# EAGLE library part ADAFRUIT_AUDIO_FX_MINI_SOUNDBOARD (library Adafruit Audio FX Sound Board)
Component for Adafruit Audio FX Mini Soundboard Product Page: https://www.adafruit.com/product/2341 Datasheet: https://cdn-shop.adafruit.com/datasheets/vs1000.pdf
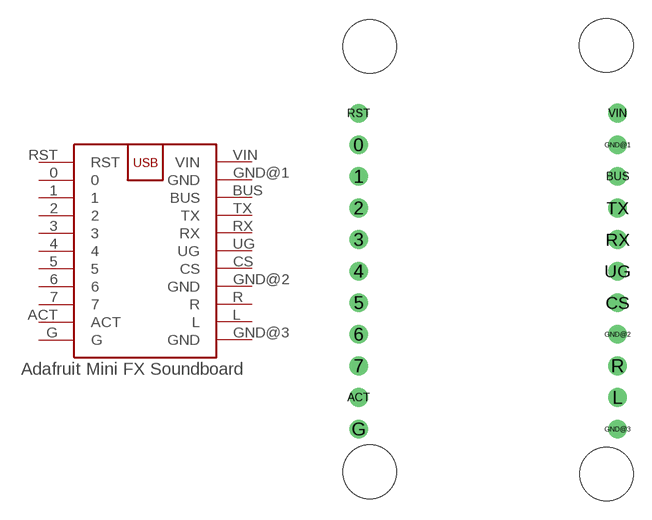
[diagram p1: symbol with the pads of ADAFRUIT_AUDIO_FX_MINI_SOUNDBOARD; footprint ADAFRUIT_AUDIO_FX_MINI_SOUNDBOARD]

Designator prefix -

## ADAFRUIT_AUDIO_FX_MINI_SOUNDBOARD  [ADAFRUIT_AUDIO_FX_MINI_SOUNDBOARD]
0  0
1  1
2  2
3  3
4  4
5  5
6  6
7  7
ACT  ACT
BUS  BUS
CS  CS
G  G
GND@1  GND
GND@2  GND
GND@3  GND
L  L
R  R
RST  RST
RX  RX
TX  TX
UG  UG
VIN  VIN

## Footprint ADAFRUIT_AUDIO_FX_MINI_SOUNDBOARD (pad centres in mm)
drill 1: 0 1.27,28.45; 1 1.27,25.91; 2 1.27,23.37; 3 1.27,20.83; 4 1.27,18.29; 5 1.27,15.75; 6 1.27,13.21; 7 1.27,10.67; ACT 1.27,8.13; BUS 22.09,25.91; CS 22.09,15.75; G 1.27,5.59; GND@1 22.09,28.45; GND@2 22.09,13.21; GND@3 22.09,5.59; L 22.09,8.13; R 22.09,10.67; RST 1.27,30.98; RX 22.09,20.83; TX 22.09,23.37; UG 22.09,18.29; VIN 22.09,30.99
hole 4.318 at 2.159,2.159
hole 4.318 at 21.189,1.974
hole 4.318 at 21.181,36.436
hole 4.318 at 2.159,36.366